# EAGLE library part 53261-0671 (library 53261-0671)
1.25mm Pitch, PicoBlade PCB Header, Single Row, Right-Angle, Surface Mount, Tin (Sn) Plating, Friction Lock, Circuits, Tape and Reel Source: Datasheet <https://www.molex.com/pdm_docs/sd/532610671_sd.pdf>
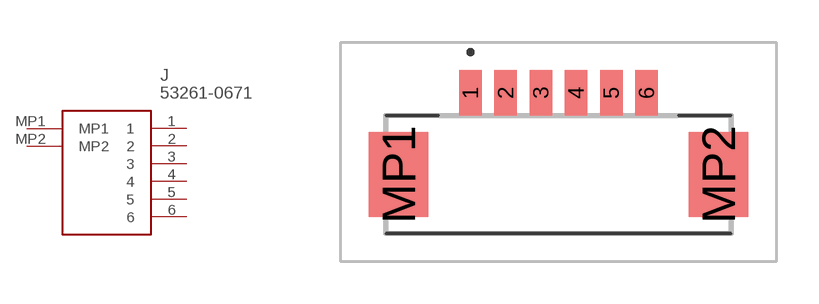
[diagram p0: symbol with the pads of 532610671; footprint 532610671]

Designator prefix J

## 53261-0671 (Description: 1.25mm Pitch, PicoBlade PCB Header, Single Row, Right-Angle, Surface Mount, Tin (Sn) Plating, Friction Lock, Circuits, Tape and Reel; Height: 3.6mm; Manufacturer_Name: Molex; Manufacturer_Part_Number: 53261-0671; Mouser_Part_Number: 538-53261-0671; Mouser_Price-Stock: https://www.mouser.co.uk/ProductDetail/Molex/53261-0671?qs=%252B72YyncTwW9Wyr77z4J2cA%3D%3D)  [532610671]
1  1
2  2
3  3
4  4
5  5
6  6
MP1  MP1
MP2  MP2

## Footprint 532610671 (pad centres in mm)
53261-0671-3
smd 0.8 x 1.6: 1 -3.125,2.9; 2 -1.875,2.9; 3 -0.625,2.9; 4 0.625,2.9; 5 1.875,2.9; 6 3.125,2.9
smd 2.1 x 3: MP1 -5.675,0; MP2 5.675,0